# Altium schematic symbol library SCH - FUSE - THERMISTOR PTC.SCHLIB: 1 symbol
Pins are listed as number, name and electrical type; pins without a type are passive.

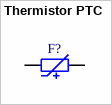
[diagram p0: symbol Thermistor PTC]

## Thermistor PTC
designator F?
pins: 1, 2